# Altium footprint library 7.接插件封装.PcbLib: 201 footprints (part 13 of 13)
Each footprint in its own frame and in the unit in brackets; x right, y up, seen from the top. Pads: shape width x height; smd on the part's side, far side on the other; paste and mask are expansions set on the pad; w line width, h text height; cw(c..) or ccw(c..) is an arc to the next point about the centre after c.
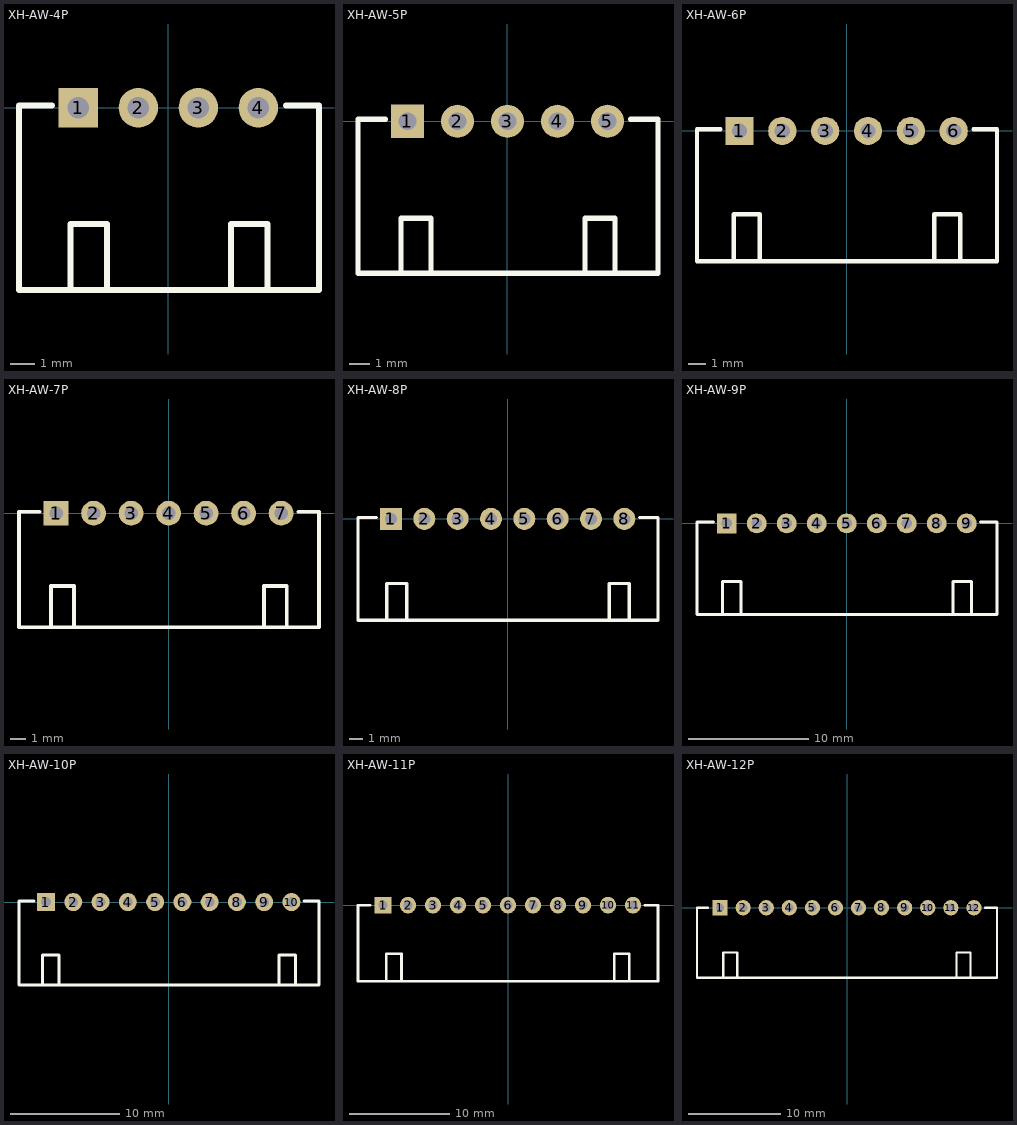
[diagram p12: the footprints below, top view; thin cyan lines are the x and y axes]

## XH-AW-4P [mil]
height 275.59
pads (4):
  rect 65x65 hole 35: 1(-147.64,0)
  round 65 hole 35: 2(-49.21,0) 3(49.21,0) 4(147.64,0)
Top Overlay:
  lines w10: -190.94,3.94 -245.08,3.94 -245.08,-299.21 247.05,-299.21 247.05,3.94 192.91,3.94 ; 102.97,-298.21 102.97,-191 162.65,-191 162.65,-298.55 ; -160.69,-299.13 -160.69,-191 -101,-191 -101,-298.79 -101.34,-299.13 -160.69,-299.13

## XH-AW-5P [mil]
pads (5):
  rect 65x65 hole 35: 1(-196.85,0)
  round 65 hole 35: 2(-98.43,0) 3(0,0) 4(98.43,0) 5(196.85,0)
Top Overlay:
  lines w10: -240.16,3.94 -294.29,3.94 -294.29,-299.21 296.28,-299.21 ; 152.18,-298.21 152.18,-191 211.87,-191 211.87,-298.55 ; 242.13,3.94 296.26,3.94 296.26,-299.21 ; -209.9,-299.13 -209.9,-191 -150.21,-191 -150.21,-298.79 -150.55,-299.13 -209.9,-299.13

## XH-AW-6P [mil]
pads (6):
  rect 65x65 hole 35: 1(-246.06,0)
  round 65 hole 35: 2(-147.64,0) 3(-49.21,0) 4(49.21,0) 5(147.64,0) 6(246.06,0)
Top Overlay:
  lines w10: -289.37,3.94 -343.5,3.94 -343.5,-299.21 345.46,-299.21 345.47,3.94 291.34,3.94 ; 201.39,-298.21 201.39,-191 261.08,-191 261.08,-298.55 ; -259.11,-299.13 -259.11,-191 -199.43,-191 -199.43,-298.79 -199.76,-299.13 -259.11,-299.13

## XH-AW-7P [mil]
pads (7):
  rect 65x65 hole 35: 1(-295.28,0)
  round 65 hole 35: 2(-196.85,0) 3(-98.43,0) 4(0,0) 5(98.43,0) 6(196.85,0) 7(295.28,0)
Top Overlay:
  lines w10: -338.58,3.94 -392.72,3.94 -392.72,-299.21 394.69,-299.21 394.69,3.94 340.55,3.94 ; 250.61,-298.21 250.61,-191 310.29,-191 310.29,-298.55 ; -308.32,-299.13 -308.32,-191 -248.64,-191 -248.64,-298.79 -248.98,-299.13 -308.32,-299.13

## XH-AW-8P [mil]
pads (8):
  rect 65x65 hole 35: 1(-344.49,0)
  round 65 hole 35: 2(-246.06,0) 3(-147.64,0) 4(-49.21,0) 5(49.21,0) 6(147.64,0) 7(246.06,0) 8(344.49,0)
Top Overlay:
  lines w10: -387.8,3.94 -441.93,3.94 -441.93,-299.21 443.9,-299.21 443.9,3.94 389.76,3.94 ; 299.82,-298.21 299.82,-191 359.5,-191 359.5,-298.55 ; -357.54,-299.13 -298.19,-299.13 -297.85,-298.79 -297.85,-191 -357.54,-191 -357.54,-299.13

## XH-AW-9P [mil]
pads (9):
  rect 65x65 hole 35: 1(-393.7,0)
  round 65 hole 35: 2(-295.28,0) 3(-196.85,0) 4(-98.43,0) 5(0,0) 6(98.43,0) 7(196.85,0) 8(295.28,0) 9(393.7,0)
Top Overlay:
  lines w10: -437.01,3.94 -491.14,3.94 -491.14,-299.21 493.11,-299.21 493.11,3.94 438.98,3.94 ; 349.03,-298.21 349.03,-191 408.72,-191 408.72,-298.55 ; -406.75,-299.13 -406.75,-191 -347.06,-191 -347.06,-298.79 -347.4,-299.13 -406.75,-299.13

## XH-AW-10P [mil]
pads (10):
  rect 65x65 hole 35: 1(-442.91,0)
  round 65 hole 35: 2(-344.49,0) 3(-246.06,0) 4(-147.64,0) 5(-49.21,0) 6(49.21,0) 7(147.64,0) 8(246.06,0) 9(344.49,0) 10(442.91,0)
Top Overlay:
  lines w10: -486.22,3.94 -540.35,3.94 -540.35,-299.21 542.32,-299.21 542.32,3.94 488.19,3.94 ; 398.24,-298.21 398.24,-191 457.93,-191 457.93,-298.55 ; -455.96,-299.13 -455.96,-191 -396.28,-191 -396.28,-298.79 -396.61,-299.13 -455.96,-299.13

## XH-AW-11P [mil]
height 275.59
pads (11):
  rect 65x65 hole 35: 1(-492.13,0)
  round 65 hole 35: 2(-393.7,0) 3(-295.28,0) 4(-196.85,0) 5(-98.43,0) 6(0,0) 7(98.43,0) 8(196.85,0) 9(295.28,0) 10(393.7,0) 11(492.13,0)
Top Overlay:
  lines w10: -543.31,0 -590.55,0 -590.55,-299.21 590.55,-299.21 590.55,0 539.37,0 ; -479,-299 -479,-190.87 -419.31,-190.87 ; 417.65,-299 417.65,-190.87 477.34,-190.87 ; -419.31,-190.87 -419.31,-298.66 -419.31,-190.87 ; 477.34,-190.87 477.34,-298.66 477.34,-190.87

## XH-AW-12P [mil]
pads (12):
  rect 65x65 hole 35: 1(-541.34,0)
  round 65 hole 35: 2(-442.91,0) 3(-344.49,0) 4(-246.06,0) 5(-147.64,0) 6(-49.21,0) 7(49.21,0) 8(147.64,0) 9(246.06,0) 10(344.49,0) 11(442.91,0) 12(541.34,0)
Top Overlay:
  lines w10: -592.52,0 -639.76,0 -639.76,-299.21 639.76,-299.21 639.76,0 588.58,0 ; -528.21,-299 -528.21,-190.87 -468.53,-190.87 ; 466.87,-299 466.87,-190.87 526.55,-190.87 ; -468.53,-190.87 -468.53,-298.66 -468.53,-190.87 ; 526.55,-190.87 526.55,-298.66 526.55,-190.87